# Altium footprint library IC_SMD_QUAD.PCBLIB: 135 footprints (part 4 of 9)
Each footprint in its own frame and in the unit in brackets; x right, y up, seen from the top. Pads: shape width x height; smd on the part's side, far side on the other; paste and mask are expansions set on the pad; w line width, h text height; cw(c..) or ccw(c..) is an arc to the next point about the centre after c.
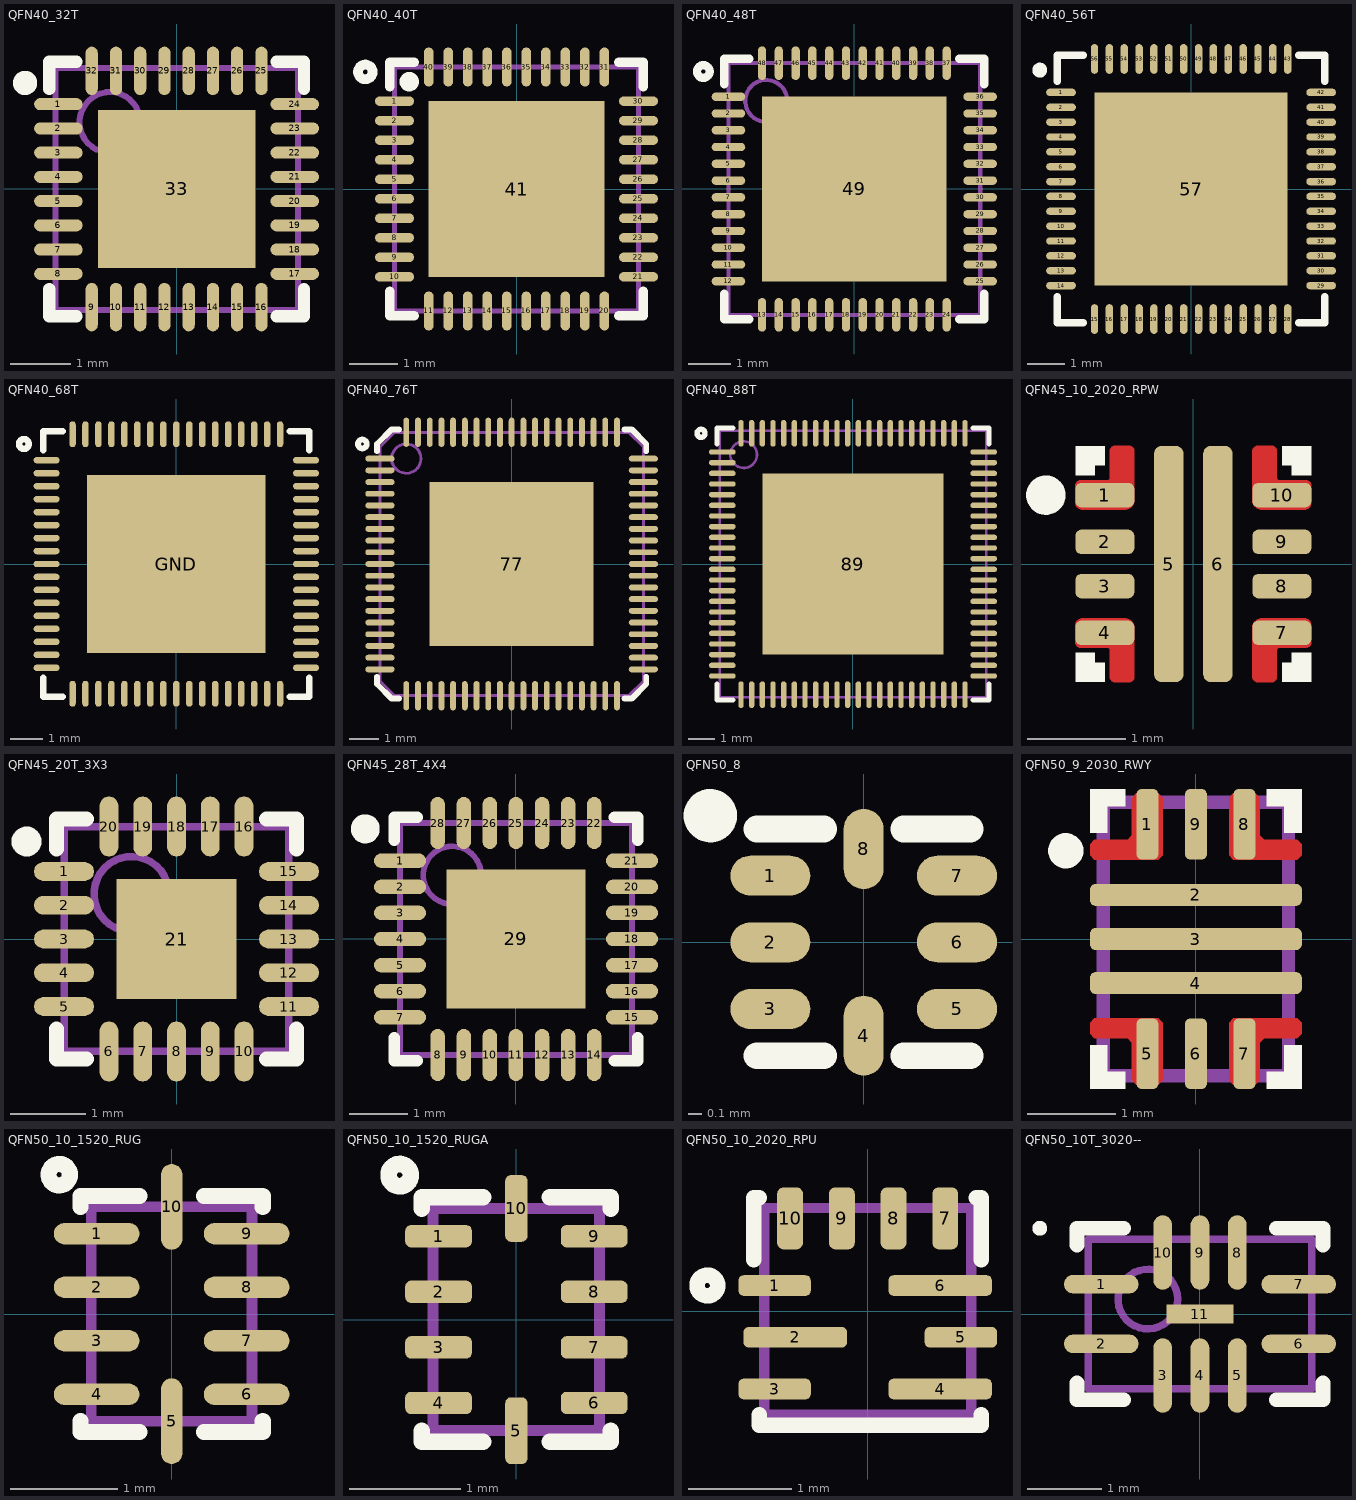
[diagram p3: the footprints below, top view; thin cyan lines are the x and y axes]

## QFN40_32T [mm] "QFN, 32M3, 32-Leads, Body 4x4mm, Pitch 0.40mm"
height 0.9
pads (33):
  oval 0.8x0.2 smd mask+0.05: 1(-1.95,1.4) 2(-1.95,1) 3(-1.95,0.6) 4(-1.95,0.2) 5(-1.95,-0.2) 6(-1.95,-0.6) 7(-1.95,-1) 8(-1.95,-1.4) 17(1.95,-1.4) 18(1.95,-1) 19(1.95,-0.6) 20(1.95,-0.2) 21(1.95,0.2) 22(1.95,0.6) 23(1.95,1) 24(1.95,1.4)
  oval 0.2x0.8 smd mask+0.05: 9(-1.4,-1.95) 10(-1,-1.95) 11(-0.6,-1.95) 12(-0.2,-1.95) 13(0.2,-1.95) 14(0.6,-1.95) 15(1,-1.95) 16(1.4,-1.95) 25(1.4,1.95) 26(1,1.95) 27(0.6,1.95) 28(0.2,1.95) 29(-0.2,1.95) 30(-0.6,1.95) 31(-1,1.95) 32(-1.4,1.95)
  rect 2.6x2.6 smd paste-5 mask+0.1: 33(0,0)
TopOverlay:
  circle w0.2: c-2.5,1.75 r0.1
  lines w0.2: -2.1,-1.65 -2.1,-2.1 -1.65,-2.1 ; -2.1,1.65 -2.1,2.1 -1.65,2.1 ; 1.65,-2.1 2.1,-2.1 2.1,-1.65 ; 1.65,2.1 2.1,2.1 2.1,1.65
TopPaste:
  rectangle: -1.2,0.2 -0.2,1.2
  region: 1.2,1.2 0.2,1.2 0.2,0.2 1.2,0.2
  region: 1.2,-0.2 0.2,-0.2 0.2,-1.2 1.2,-1.2
  rectangle: -1.2,-1.2 -0.2,-0.2
Mechanical13:
  circle w0.1: c-1.1,1.1 r0.5
  lines w0.1: -2,-2 2,-2 2,2 -2,2 -2,-2
3D body "QFN40_32T.step": height 0.9, standoff 0, extent -2.001,-2.001 2.001,2.001

## QFN40_40T [mm] "40 TQFN-EP (maxim), 5X5mm, 0.4mm"
height 0.75
pads (41):
  oval 0.8x0.2 smd mask+0.05: 1(-2.5,1.8) 2(-2.5,1.4) 3(-2.5,1) 4(-2.5,0.6) 5(-2.5,0.2) 6(-2.5,-0.2) 7(-2.5,-0.6) 8(-2.5,-1) 9(-2.5,-1.4) 10(-2.5,-1.8) 21(2.5,-1.8) 22(2.5,-1.4) 23(2.5,-1) 24(2.5,-0.6) 25(2.5,-0.2) 26(2.5,0.2) 27(2.5,0.6) 28(2.5,1) 29(2.5,1.4) 30(2.5,1.8)
  oval 0.2x0.8 smd mask+0.05: 11(-1.8,-2.5) 12(-1.4,-2.5) 13(-1,-2.5) 14(-0.6,-2.5) 15(-0.2,-2.5) 16(0.2,-2.5) 17(0.6,-2.5) 18(1,-2.5) 19(1.4,-2.5) 20(1.8,-2.5) 31(1.8,2.5) 32(1.4,2.5) 33(1,2.5) 34(0.6,2.5) 35(0.2,2.5) 36(-0.2,2.5) 37(-0.6,2.5) 38(-1,2.5) 39(-1.4,2.5) 40(-1.8,2.5)
  rect 3.6x3.6 smd paste-5: 41(0,0)
TopOverlay:
  circle w0.2: c-3.1,2.4 r0.15
  circle w0.2: c-2.2,2.2 r0.1
  lines w0.2: -2.6,-2.1 -2.6,-2.6 -2.1,-2.6 ; -2.6,2.1 -2.6,2.6 -2.1,2.6 ; 2.1,-2.6 2.6,-2.6 2.6,-2.1 ; 2.1,2.6 2.6,2.6 2.6,2.1
TopPaste:
  rectangle: -1.6,0.2 -0.2,1.6
  region: 1.6,1.6 0.2,1.6 0.2,0.2 1.6,0.2
  region: 1.6,-0.2 0.2,-0.2 0.2,-1.6 1.6,-1.6
  rectangle: -1.6,-1.6 -0.2,-0.2
Mechanical13:
  lines w0.1: -2.5,-2.5 2.5,-2.5 2.5,2.5 -2.5,2.5 -2.5,-2.5
3D body "User Library-QFN 40 5x5.step": height 0.73, standoff -0.02, extent -2.501,-2.501 2.501,2.501

## QFN40_48T [mm] "QFN, 48-Leads, Body 6.00x6.00mm, Pitch 0.40mm, Thermal Pad 4.40x4.40mm"
height 1
pads (49):
  oval 0.8x0.2 smd mask+0.05: 1(-3,2.2) 2(-3,1.8) 3(-3,1.4) 4(-3,1) 5(-3,0.6) 6(-3,0.2) 7(-3,-0.2) 8(-3,-0.6) 9(-3,-1) 10(-3,-1.4) 11(-3,-1.8) 12(-3,-2.2) 25(3,-2.2) 26(3,-1.8) 27(3,-1.4) 28(3,-1) 29(3,-0.6) 30(3,-0.2) 31(3,0.2) 32(3,0.6) 33(3,1) 34(3,1.4) 35(3,1.8) 36(3,2.2)
  oval 0.2x0.8 smd mask+0.05: 13(-2.2,-3) 14(-1.8,-3) 15(-1.4,-3) 16(-1,-3) 17(-0.6,-3) 18(-0.2,-3) 19(0.2,-3) 20(0.6,-3) 21(1,-3) 22(1.4,-3) 23(1.8,-3) 24(2.2,-3) 37(2.2,3) 38(1.8,3) 39(1.4,3) 40(1,3) 41(0.6,3) 42(0.2,3) 43(-0.2,3) 44(-0.6,3) 45(-1,3) 46(-1.4,3) 47(-1.8,3) 48(-2.2,3)
  rect 4.4x4.4 smd paste-5 mask+0.1: 49(0,0)
TopOverlay:
  circle w0.2: c-3.6,2.8 r0.15
  lines w0.2: -3.1,-2.5 -3.1,-3.1 -2.5,-3.1 ; -3.1,2.5 -3.1,3.1 -2.5,3.1 ; 2.5,-3.1 3.1,-3.1 3.1,-2.5 ; 2.5,3.1 3.1,3.1 3.1,2.5
TopPaste:
  rectangle: -2,0.2 -0.2,2
  region: 2,2 0.2,2 0.2,0.2 2,0.2
  region: 2,-0.2 0.2,-0.2 0.2,-2 2,-2
  rectangle: -2,-2 -0.2,-0.2
Mechanical13:
  circle w0.1: c-2.1,2.1 r0.5
  lines w0.1: -3,-3 -3,3 3,3 3,-3 -3,-3
3D body: height 1, standoff 0, extent -3,-3 3,3

## QFN40_56T [mm] "QFN-56 7*7,  pitch: 0.4mm, 7x7x0.8mm"
height 0.8
pads (57):
  oval 0.8x0.2 smd mask+0.05: 1(-3.5,2.6) 2(-3.5,2.2) 3(-3.5,1.8) 4(-3.5,1.4) 5(-3.5,1) 6(-3.5,0.6) 7(-3.5,0.2) 8(-3.5,-0.2) 9(-3.5,-0.6) 10(-3.5,-1) 11(-3.5,-1.4) 12(-3.5,-1.8) 13(-3.5,-2.2) 14(-3.5,-2.6) 29(3.5,-2.6) 30(3.5,-2.2) 31(3.5,-1.8) 32(3.5,-1.4) 33(3.5,-1) 34(3.5,-0.6) 35(3.5,-0.2) 36(3.5,0.2) 37(3.5,0.6) 38(3.5,1) 39(3.5,1.4) 40(3.5,1.8) 41(3.5,2.2) 42(3.5,2.6)
  oval 0.2x0.8 smd mask+0.05: 15(-2.6,-3.5) 16(-2.2,-3.5) 17(-1.8,-3.5) 18(-1.4,-3.5) 19(-1,-3.5) 20(-0.6,-3.5) 21(-0.2,-3.5) 22(0.2,-3.5) 23(0.6,-3.5) 24(1,-3.5) 25(1.4,-3.5) 26(1.8,-3.5) 27(2.2,-3.5) 28(2.6,-3.5) 43(2.6,3.5) 44(2.2,3.5) 45(1.8,3.5) 46(1.4,3.5) 47(1,3.5) 48(0.6,3.5) 49(0.2,3.5) 50(-0.2,3.5) 51(-0.6,3.5) 52(-1,3.5) 53(-1.4,3.5) 54(-1.8,3.5) 55(-2.2,3.5) 56(-2.6,3.5)
  rect 5.2x5.2 smd paste-3 mask+0.075: 57(0,0)
TopOverlay:
  circle w0.2: c-4.075,3.2 r0.1
  lines w0.2: -3.6,-2.9 -3.6,-3.6 -2.9,-3.6 ; -3.6,2.9 -3.6,3.6 -2.9,3.6 ; 2.9,-3.6 3.6,-3.6 3.6,-2.9 ; 2.9,3.6 3.6,3.6 3.6,2.9
TopPaste:
  rectangle: -1.2,-1.2 -0.2,-0.2
  rectangle: -2.4,-2.4 -1.4,-1.4
  region: -0.2,-1.4 -1.2,-1.4 -1.2,-2.4 -0.2,-2.4
  rectangle: -2.4,-1.2 -1.4,-0.2
  region: 2.4,-0.2 1.4,-0.2 1.4,-1.2 2.4,-1.2
  rectangle: 0.2,-2.4 1.2,-1.4
  region: 2.4,-1.4 1.4,-1.4 1.4,-2.4 2.4,-2.4
  region: 1.2,-0.2 0.2,-0.2 0.2,-1.2 1.2,-1.2
  region: 1.2,1.2 0.2,1.2 0.2,0.2 1.2,0.2
  region: 2.4,2.4 1.4,2.4 1.4,1.4 2.4,1.4
  rectangle: 0.2,1.4 1.2,2.4
  region: 2.4,1.2 1.4,1.2 1.4,0.2 2.4,0.2
  rectangle: -2.4,0.2 -1.4,1.2
  region: -0.2,2.4 -1.2,2.4 -1.2,1.4 -0.2,1.4
  rectangle: -2.4,1.4 -1.4,2.4
  rectangle: -1.2,0.2 -0.2,1.2
3D body "AXP805.stp": height 0.8, standoff 0, extent -3.55,-3.55 3.55,3.55

## QFN40_68T [mm] "QFN-68, pitch 0.4mm, 8x8x0.75mm"
height 0.75
pads (69):
  oval 0.8x0.2 smd paste+0 mask+0.05: 1(-4,3.2) 2(-4,2.8) 3(-4,2.4) 4(-4,2) 5(-4,1.6) 6(-4,1.2) 7(-4,0.8) 8(-4,0.4) 9(-4,0) 10(-4,-0.4) 11(-4,-0.8) 12(-4,-1.2) 13(-4,-1.6) 14(-4,-2) 15(-4,-2.4) 16(-4,-2.8) 17(-4,-3.2) 35(4,-3.2) 36(4,-2.8) 37(4,-2.4) 38(4,-2) 39(4,-1.6) 40(4,-1.2) 41(4,-0.8) 42(4,-0.4) 43(4,0) 44(4,0.4) 45(4,0.8) 46(4,1.2) 47(4,1.6) 48(4,2) 49(4,2.4) 50(4,2.8) 51(4,3.2)
  oval 0.2x0.8 smd paste+0 mask+0.05: 18(-3.2,-4) 19(-2.8,-4) 20(-2.4,-4) 21(-2,-4) 22(-1.6,-4) 23(-1.2,-4) 24(-0.8,-4) 25(-0.4,-4) 26(0,-4) 27(0.4,-4) 28(0.8,-4) 29(1.2,-4) 30(1.6,-4) 31(2,-4) 32(2.4,-4) 33(2.8,-4) 34(3.2,-4) 52(3.2,4) 53(2.8,4) 54(2.4,4) 55(2,4) 56(1.6,4) 57(1.2,4) 58(0.8,4) 59(0.4,4) 60(0,4) 61(-0.4,4) 62(-0.8,4) 63(-1.2,4) 64(-1.6,4) 65(-2,4) 66(-2.4,4) 67(-2.8,4) 68(-3.2,4)
  rect 5.5x5.5 smd paste-3: GND(0,0)
TopOverlay:
  circle w0.2: c-4.7,3.7 r0.15
  lines w0.2: -4.1,-3.5 -4.1,-4.1 -3.5,-4.1 ; -4.1,3.5 -4.1,4.1 -3.5,4.1 ; 3.5,-4.1 4.1,-4.1 4.1,-3.5 ; 3.5,4.1 4.1,4.1 4.1,3.5
TopPaste:
  region: 2.7,-0.8 2.7,-1.3 1.7,-1.3 1.7,-0.8
  region: 1.3,-2.7 0.8,-2.7 0.8,-1.7 1.3,-1.7
  region: -0.8,-2.7 -1.3,-2.7 -1.3,-1.7 -0.8,-1.7
  region: -2.7,-1.3 -2.7,-0.8 -1.7,-0.8 -1.7,-1.3
  region: -2.7,0.8 -2.7,1.3 -1.7,1.3 -1.7,0.8
  region: -1.3,2.7 -0.8,2.7 -0.8,1.7 -1.3,1.7
  region: 1.7,0.8 1.7,1.3 2.7,1.3 2.7,0.8
  region: 0.8,2.7 1.3,2.7 1.3,1.7 0.8,1.7
  region: 1.2,-0.9 1.2,0.9 2.7,0.9 2.7,-0.9
  region: -0.9,1.2 -0.9,2.7 0.9,2.7 0.9,1.2
  region: -0.9,-2.7 -0.9,-1.2 0.9,-1.2 0.9,-2.7
  region: -2.7,-0.9 -2.7,0.9 -1.2,0.9 -1.2,-0.9
3D body: height 0.75, standoff 0, extent -4,-4 4,4

## QFN40_76T [mm] "QFN, 76-Leads, Body 9.00x9.00mm, Pitch 0.40mm, Thermal Pad 5.50x5.50mm"
height 1
pads (77):
  oval 1x0.2 smd mask+0.05: 1(-4.5,3.6) 2(-4.5,3.2) 3(-4.5,2.8) 4(-4.5,2.4) 5(-4.5,2) 6(-4.5,1.6) 7(-4.5,1.2) 8(-4.5,0.8) 9(-4.5,0.4) 10(-4.5,0) 11(-4.5,-0.4) 12(-4.5,-0.8) 13(-4.5,-1.2) 14(-4.5,-1.6) 15(-4.5,-2) 16(-4.5,-2.4) 17(-4.5,-2.8) 18(-4.5,-3.2) 19(-4.5,-3.6) 39(4.5,-3.6) 40(4.5,-3.2) 41(4.5,-2.8) 42(4.5,-2.4) 43(4.5,-2) 44(4.5,-1.6) 45(4.5,-1.2) 46(4.5,-0.8) 47(4.5,-0.4) 48(4.5,0) 49(4.5,0.4) 50(4.5,0.8) 51(4.5,1.2) 52(4.5,1.6) 53(4.5,2) 54(4.5,2.4) 55(4.5,2.8) 56(4.5,3.2) 57(4.5,3.6)
  oval 0.2x1 smd mask+0.05: 20(-3.6,-4.5) 21(-3.2,-4.5) 22(-2.8,-4.5) 23(-2.4,-4.5) 24(-2,-4.5) 25(-1.6,-4.5) 26(-1.2,-4.5) 27(-0.8,-4.5) 28(-0.4,-4.5) 29(0,-4.5) 30(0.4,-4.5) 31(0.8,-4.5) 32(1.2,-4.5) 33(1.6,-4.5) 34(2,-4.5) 35(2.4,-4.5) 36(2.8,-4.5) 37(3.2,-4.5) 38(3.6,-4.5) 58(3.6,4.5) 59(3.2,4.5) 60(2.8,4.5) 61(2.4,4.5) 62(2,4.5) 63(1.6,4.5) 64(1.2,4.5) 65(0.8,4.5) 66(0.4,4.5) 67(0,4.5) 68(-0.4,4.5) 69(-0.8,4.5) 70(-1.2,4.5) 71(-1.6,4.5) 72(-2,4.5) 73(-2.4,4.5) 74(-2.8,4.5) 75(-3.2,4.5) 76(-3.6,4.5)
  rect 5.6x5.6 smd paste-5: 77(0,0)
TopOverlay:
  circle w0.2: c-5.1,4.1 r0.15
  lines w0.2: -4.6,-3.85 -4.6,-4.1 -4.1,-4.6 -3.85,-4.6 ; -4.6,3.85 -4.6,4.1 -4.1,4.6 -3.85,4.6 ; 3.85,-4.6 4.1,-4.6 4.6,-4.1 4.6,-3.85 ; 3.85,4.6 4.1,4.6 4.6,4.1 4.6,3.85
TopPaste:
  region: 1.2,1.2 0.2,1.2 0.2,0.2 1.2,0.2
  region: 2.6,2.6 1.6,2.6 1.6,1.6 2.6,1.6
  rectangle: 0.2,1.6 1.2,2.6
  region: 2.6,1.2 1.6,1.2 1.6,0.2 2.6,0.2
  rectangle: -2.6,0.2 -1.6,1.2
  region: -0.2,2.6 -1.2,2.6 -1.2,1.6 -0.2,1.6
  rectangle: -2.6,1.6 -1.6,2.6
  rectangle: -1.2,0.2 -0.2,1.2
  rectangle: -1.2,-1.2 -0.2,-0.2
  rectangle: -2.6,-2.6 -1.6,-1.6
  region: -0.2,-1.6 -1.2,-1.6 -1.2,-2.6 -0.2,-2.6
  rectangle: -2.6,-1.2 -1.6,-0.2
  region: 2.6,-0.2 1.6,-0.2 1.6,-1.2 2.6,-1.2
  rectangle: 0.2,-2.6 1.2,-1.6
  region: 2.6,-1.6 1.6,-1.6 1.6,-2.6 2.6,-2.6
  region: 1.2,-0.2 0.2,-0.2 0.2,-1.2 1.2,-1.2
Mechanical13:
  circle w0.1: c-3.6,3.6 r0.5
  lines w0.1: -4.5,-4 -4,-4.5 4,-4.5 4.5,-4 4.5,4 4,4.5 -4,4.5 -4.5,4 -4.5,-4
3D body: height 1, standoff 0, extent -4.5,-4.5 4.5,4.5

## QFN40_88T [mm] "QFN, 88-Leads, 10x10mm, Pitch 0.40mm"
height 0.9
pads (89):
  oval 1x0.2 smd mask+0.05: 1(-4.9,4.2) 2(-4.9,3.8) 3(-4.9,3.4) 4(-4.9,3) 5(-4.9,2.6) 6(-4.9,2.2) 7(-4.9,1.8) 8(-4.9,1.4) 9(-4.9,1) 10(-4.9,0.6) 11(-4.9,0.2) 12(-4.9,-0.2) 13(-4.9,-0.6) 14(-4.9,-1) 15(-4.9,-1.4) 16(-4.9,-1.8) 17(-4.9,-2.2) 18(-4.9,-2.6) 19(-4.9,-3) 20(-4.9,-3.4) 21(-4.9,-3.8) 22(-4.9,-4.2) 45(4.9,-4.2) 46(4.9,-3.8) 47(4.9,-3.4) 48(4.9,-3) 49(4.9,-2.6) 50(4.9,-2.2) 51(4.9,-1.8) 52(4.9,-1.4) 53(4.9,-1) 54(4.9,-0.6) 55(4.9,-0.2) 56(4.9,0.2) 57(4.9,0.6) 58(4.9,1) 59(4.9,1.4) 60(4.9,1.8) 61(4.9,2.2) 62(4.9,2.6) 63(4.9,3) 64(4.9,3.4) 65(4.9,3.8) 66(4.9,4.2)
  oval 0.2x1 smd mask+0.05: 23(-4.2,-4.9) 24(-3.8,-4.9) 25(-3.4,-4.9) 26(-3,-4.9) 27(-2.6,-4.9) 28(-2.2,-4.9) 29(-1.8,-4.9) 30(-1.4,-4.9) 31(-1,-4.9) 32(-0.6,-4.9) 33(-0.2,-4.9) 34(0.2,-4.9) 35(0.6,-4.9) 36(1,-4.9) 37(1.4,-4.9) 38(1.8,-4.9) 39(2.2,-4.9) 40(2.6,-4.9) 41(3,-4.9) 42(3.4,-4.9) 43(3.8,-4.9) 44(4.2,-4.9) 67(4.2,4.9) 68(3.8,4.9) 69(3.4,4.9) 70(3,4.9) 71(2.6,4.9) 72(2.2,4.9) 73(1.8,4.9) 74(1.4,4.9) 75(1,4.9) 76(0.6,4.9) 77(0.2,4.9) 78(-0.2,4.9) 79(-0.6,4.9) 80(-1,4.9) 81(-1.4,4.9) 82(-1.8,4.9) 83(-2.2,4.9) 84(-2.6,4.9) 85(-3,4.9) 86(-3.4,4.9) 87(-3.8,4.9) 88(-4.2,4.9)
  rect 6.8x6.8 smd: 89(0,0)
TopOverlay:
  circle w0.2: c-5.7,4.9 r0.15
  lines w0.2: -5.1,-4.5 -5.1,-5.1 -4.5,-5.1 ; -5.1,4.5 -5.1,5.1 -4.5,5.1 ; 4.5,-5.1 5.1,-5.1 5.1,-4.5 ; 4.5,5.1 5.1,5.1 5.1,4.5
Mechanical13:
  circle w0.1: c-4.1,4.1 r0.5
  lines w0.1: -5,-5 5,-5 5,5 -5,5 -5,-5
3D body "QFN40_88T.step": height 0.9, standoff 0, extent -5.001,-5.001 5.001,5.001

## QFN45_10_2020_RPW [mm] "QFN-10 RPW, pitch: 0.5mm, 2x2x1mm"
height 1
pads (10):
  rrect50% 0.6x0.25 smd mask+0.05: 1(-0.9,0.7) 2(-0.9,0.225) 3(-0.9,-0.225) 4(-0.9,-0.7) 7(0.9,-0.7) 8(0.9,-0.225) 9(0.9,0.225) 10(0.9,0.7)
  rrect50% 0.3x2.4 smd paste-2 mask+0.05: 5(-0.25,0) 6(0.25,0)
TopLayer:
  region: -1.2,-0.625 -1.2,-0.8 -1.2,-0.81 -1.192,-0.828 -1.178,-0.842 -1.16,-0.85 -1.15,-0.85 -0.875,-0.85 -0.87,-0.85 -0.861,-0.854 -0.854,-0.861 -0.85,-0.87 -0.85,-0.875 -0.85,-1.15 -0.85,-1.16 -0.842,-1.178 -0.828,-1.192 -0.81,-1.2 -0.8,-1.2 -0.65,-1.2 -0.64,-1.2 -0.622,-1.192 -0.608,-1.178 -0.6,-1.16 -0.6,-1.15 -0.6,-0.65 -0.6,-0.63 -0.615,-0.593 -0.643,-0.565 -0.68,-0.55 -0.7,-0.55 -1.125,-0.55 -1.14,-0.55 -1.167,-0.561 -1.189,-0.582 -1.2,-0.61
  region: 1.2,-0.625 1.2,-0.8 1.2,-0.81 1.192,-0.828 1.178,-0.842 1.16,-0.85 1.15,-0.85 0.875,-0.85 0.87,-0.85 0.861,-0.854 0.854,-0.861 0.85,-0.87 0.85,-0.875 0.85,-1.15 0.85,-1.16 0.842,-1.178 0.828,-1.192 0.81,-1.2 0.8,-1.2 0.65,-1.2 0.64,-1.2 0.622,-1.192 0.608,-1.178 0.6,-1.16 0.6,-1.15 0.6,-0.65 0.6,-0.63 0.615,-0.593 0.643,-0.565 0.68,-0.55 0.7,-0.55 1.125,-0.55 1.14,-0.55 1.167,-0.561 1.189,-0.582 1.2,-0.61
  region: 1.2,0.625 1.2,0.8 1.2,0.81 1.192,0.828 1.178,0.842 1.16,0.85 1.15,0.85 0.875,0.85 0.87,0.85 0.861,0.854 0.854,0.861 0.85,0.87 0.85,0.875 0.85,1.15 0.85,1.16 0.842,1.178 0.828,1.192 0.81,1.2 0.8,1.2 0.65,1.2 0.64,1.2 0.622,1.192 0.608,1.178 0.6,1.16 0.6,1.15 0.6,0.65 0.6,0.63 0.615,0.593 0.643,0.565 0.68,0.55 0.7,0.55 1.125,0.55 1.14,0.55 1.167,0.561 1.189,0.582 1.2,0.61
  region: -1.2,0.625 -1.2,0.8 -1.2,0.81 -1.192,0.828 -1.178,0.842 -1.16,0.85 -1.15,0.85 -0.875,0.85 -0.87,0.85 -0.861,0.854 -0.854,0.861 -0.85,0.87 -0.85,0.875 -0.85,1.15 -0.85,1.16 -0.842,1.178 -0.828,1.192 -0.81,1.2 -0.8,1.2 -0.65,1.2 -0.64,1.2 -0.622,1.192 -0.608,1.178 -0.6,1.16 -0.6,1.15 -0.6,0.65 -0.6,0.63 -0.615,0.593 -0.643,0.565 -0.68,0.55 -0.7,0.55 -1.125,0.55 -1.14,0.55 -1.167,0.561 -1.189,0.582 -1.2,0.61
TopOverlay:
  circle w0.2: c-1.5,0.7 r0.1
  region: -0.9,-1 -1.2,-1 -1.2,-1.2 -0.9,-1.2
  region: -1,-1.2 -1,-0.9 -1.2,-0.9 -1.2,-1.2
  rectangle: 0.9,-1.2 1.2,-1
  region: 1.2,-1.2 1.2,-0.9 1,-0.9 1,-1.2
  rectangle: 0.9,1 1.2,1.2
  region: 1,1.2 1,0.9 1.2,0.9 1.2,1.2
  region: -0.9,1.2 -1.2,1.2 -1.2,1 -0.9,1
  region: -1.2,1.2 -1.2,0.9 -1,0.9 -1,1.2
TopPaste:
  region: -0.15,-0.1 -0.35,-0.1 -0.36,-0.1 -0.378,-0.108 -0.392,-0.122 -0.4,-0.14 -0.4,-0.15 -0.4,-1.05 -0.4,-1.06 -0.392,-1.078 -0.378,-1.092 -0.36,-1.1 -0.35,-1.1 -0.15,-1.1 -0.14,-1.1 -0.122,-1.092 -0.108,-1.078 -0.1,-1.06 -0.1,-1.05 -0.1,-0.15 -0.1,-0.14 -0.108,-0.122 -0.122,-0.108 -0.14,-0.1
  region: 0.15,-0.1 0.35,-0.1 0.36,-0.1 0.378,-0.108 0.392,-0.122 0.4,-0.14 0.4,-0.15 0.4,-1.05 0.4,-1.06 0.392,-1.078 0.378,-1.092 0.36,-1.1 0.35,-1.1 0.15,-1.1 0.14,-1.1 0.122,-1.092 0.108,-1.078 0.1,-1.06 0.1,-1.05 0.1,-0.15 0.1,-0.14 0.108,-0.122 0.122,-0.108 0.14,-0.1
  region: -0.15,0.1 -0.35,0.1 -0.36,0.1 -0.378,0.108 -0.392,0.122 -0.4,0.14 -0.4,0.15 -0.4,1.05 -0.4,1.06 -0.392,1.078 -0.378,1.092 -0.36,1.1 -0.35,1.1 -0.15,1.1 -0.14,1.1 -0.122,1.092 -0.108,1.078 -0.1,1.06 -0.1,1.05 -0.1,0.15 -0.1,0.14 -0.108,0.122 -0.122,0.108 -0.14,0.1
  region: 0.15,0.1 0.35,0.1 0.36,0.1 0.378,0.108 0.392,0.122 0.4,0.14 0.4,0.15 0.4,1.05 0.4,1.06 0.392,1.078 0.378,1.092 0.36,1.1 0.35,1.1 0.15,1.1 0.14,1.1 0.122,1.092 0.108,1.078 0.1,1.06 0.1,1.05 0.1,0.15 0.1,0.14 0.108,0.122 0.122,0.108 0.14,0.1
3D body "RPW0010A.stp": height 1, standoff 0, extent -1,-1 1,1

## QFN45_20T_3X3 [mm] "20M2, QFN-20, 3X3mm, pitch 0.45mm"
height 0.8
pads (21):
  oval 0.8x0.25 smd mask+0.05: 1(-1.5,0.9) 2(-1.5,0.45) 3(-1.5,0) 4(-1.5,-0.45) 5(-1.5,-0.9) 11(1.5,-0.9) 12(1.5,-0.45) 13(1.5,0) 14(1.5,0.45) 15(1.5,0.9)
  oval 0.25x0.8 smd mask+0.05: 6(-0.9,-1.5) 7(-0.45,-1.5) 8(0,-1.5) 9(0.45,-1.5) 10(0.9,-1.5) 16(0.9,1.5) 17(0.45,1.5) 18(0,1.5) 19(-0.45,1.5) 20(-0.9,1.5)
  rect 1.6x1.6 smd paste-5 mask+0.1: 21(0,0)
TopOverlay:
  circle w0.2: c-2,1.3 r0.1
  lines w0.2: -1.6,-1.2 -1.6,-1.6 -1.2,-1.6 ; -1.6,1.2 -1.6,1.6 -1.2,1.6 ; 1.2,-1.6 1.6,-1.6 1.6,-1.2 ; 1.2,1.6 1.6,1.6 1.6,1.2
TopPaste:
  rectangle: -0.7,-0.7 -0.1,-0.1
  region: 0.7,-0.1 0.1,-0.1 0.1,-0.7 0.7,-0.7
  region: 0.7,0.7 0.1,0.7 0.1,0.1 0.7,0.1
  rectangle: -0.7,0.1 -0.1,0.7
Mechanical13:
  circle w0.1: c-0.6,0.6 r0.5
  lines w0.1: -1.5,-1.5 -1.5,1.5 1.5,1.5 1.5,-1.5 -1.5,-1.5
3D body "QFN45_20T_3X3.step": height 0.8, standoff 0, extent -1.501,-1.501 1.501,1.501

## QFN45_28T_4X4 [mm] "28M1, QFN-28, pitch:0.45mm 4x4x1mm"
height 1
pads (29):
  oval 0.9x0.25 smd mask+0.05: 1(-2,1.35) 2(-2,0.9) 3(-2,0.45) 4(-2,0) 5(-2,-0.45) 6(-2,-0.9) 7(-2,-1.35) 15(2,-1.35) 16(2,-0.9) 17(2,-0.45) 18(2,0) 19(2,0.45) 20(2,0.9) 21(2,1.35)
  oval 0.25x0.9 smd mask+0.05: 8(-1.35,-2) 9(-0.9,-2) 10(-0.45,-2) 11(0,-2) 12(0.45,-2) 13(0.9,-2) 14(1.35,-2) 22(1.35,2) 23(0.9,2) 24(0.45,2) 25(0,2) 26(-0.45,2) 27(-0.9,2) 28(-1.35,2)
  rect 2.4x2.4 smd paste-5: 29(0,0)
TopOverlay:
  circle w0.25: c-2.6,1.9 r0.125
  lines w0.2: -2.1,-1.7 -2.1,-2.1 -1.7,-2.1 ; -2.1,1.7 -2.1,2.1 -1.7,2.1 ; 1.7,-2.1 2.1,-2.1 2.1,-1.7 ; 1.7,2.1 2.1,2.1 2.1,1.7
TopPaste:
  rectangle: -1.1,0.2 -0.2,1.1
  region: 1.1,1.1 0.2,1.1 0.2,0.2 1.1,0.2
  region: 1.1,-0.2 0.2,-0.2 0.2,-1.1 1.1,-1.1
  rectangle: -1.1,-1.1 -0.2,-0.2
Mechanical13:
  circle w0.1: c-1.1,1.1 r0.5
  lines w0.1: -2,-2 2,-2 2,2 -2,2 -2,-2
3D body "QFN45_28T_4X4.step": height 1, standoff 0, extent -2.001,-2.001 2.001,2.001

## QFN50_8 [mm] "RSE UQFN-8, 1.5X1.5X.6mm"
height 0.6
pads (8):
  oval 0.6x0.3 smd mask+0.05: 1(-0.7,0.5) 2(-0.7,0) 3(-0.7,-0.5) 5(0.7,-0.5) 6(0.7,0) 7(0.7,0.5)
  oval 0.3x0.6 smd mask+0.05: 4(0,-0.7) 8(0,0.7)
TopOverlay:
  circle w0.2: c-1.15,0.95 r0.1
  lines w0.2: -0.8,-0.85 -0.3,-0.85 ; -0.8,0.85 -0.3,0.85 ; 0.3,-0.85 0.8,-0.85 ; 0.3,0.85 0.8,0.85
3D body: height 0.6, standoff 0, extent -0.75,-0.75 0.75,0.75

## QFN50_9_2030_RWY [mm] "VQFN-9 RWY, pitch: 0.5mm, 2x3x1mm"
height 1
pads (9):
  rrect50% 0.25x0.8 smd paste-0.151 mask+0.05: 1(-0.55,1.3) 5(-0.55,-1.3) 7(0.55,-1.3) 8(0.55,1.3)
  rrect50% 2.4x0.25 smd paste-1.137 mask+0.05: 2(0,0.5) 3(0,0) 4(0,-0.5)
  rrect50% 0.25x0.8 smd paste+0 mask+0.05: 6(0,-1.3) 9(0,1.3)
TopLayer:
  region: -0.425,-0.9 -1.15,-0.9 -1.2,-0.95 -1.2,-1.075 -1.15,-1.125 -0.775,-1.125 -0.725,-1.175 -0.725,-1.6 -0.675,-1.65 -0.425,-1.65 -0.375,-1.6 -0.375,-0.95
  region: 0.425,-0.9 1.15,-0.9 1.2,-0.95 1.2,-1.075 1.15,-1.125 0.775,-1.125 0.725,-1.175 0.725,-1.6 0.675,-1.65 0.425,-1.65 0.375,-1.6 0.375,-0.95
  region: 0.425,0.9 1.15,0.9 1.2,0.95 1.2,1.075 1.15,1.125 0.775,1.125 0.725,1.175 0.725,1.6 0.675,1.65 0.425,1.65 0.375,1.6 0.375,0.95
  region: -0.425,0.9 -1.15,0.9 -1.2,0.95 -1.2,1.075 -1.15,1.125 -0.775,1.125 -0.725,1.175 -0.725,1.6 -0.675,1.65 -0.425,1.65 -0.375,1.6 -0.375,0.95
TopOverlay:
  circle w0.2: c-1.475,1 r0.1
  region: -0.8,1.7 -1.2,1.7 -1.2,1.5 -0.8,1.5
  rectangle: 0.8,-1.7 1.2,-1.5
  region: 1,-1.2 1,-1.7 1.2,-1.7 1.2,-1.2
  region: -0.8,-1.5 -1.2,-1.5 -1.2,-1.7 -0.8,-1.7
  region: -1.2,-1.2 -1.2,-1.7 -1,-1.7 -1,-1.2
  rectangle: 0.8,1.5 1.2,1.7
  region: 1.2,1.2 1.2,1.7 1,1.7 1,1.2
  region: -1,1.2 -1,1.7 -1.2,1.7 -1.2,1.2
TopPaste:
  region: -0.5,-0.9 -1.125,-0.9 -1.125,-1.125 -0.695,-1.125 -0.675,-1.145 -0.675,-1.65 -0.425,-1.65 -0.425,-0.975
  region: 0.5,-0.9 1.125,-0.9 1.125,-1.125 0.695,-1.125 0.675,-1.145 0.675,-1.65 0.425,-1.65 0.425,-0.975
  region: 0.5,0.9 1.125,0.9 1.125,1.125 0.695,1.125 0.675,1.145 0.675,1.65 0.425,1.65 0.425,0.975
  region: -0.5,0.9 -1.125,0.9 -1.125,1.125 -0.695,1.125 -0.675,1.145 -0.675,1.65 -0.425,1.65 -0.425,0.975
  region: 0.1,-0.425 0.15,-0.375 1.1,-0.375 1.15,-0.425 1.15,-0.575 1.1,-0.625 0.15,-0.625 0.1,-0.575
  region: 0.1,-0.075 0.1,0.075 0.15,0.125 1.1,0.125 1.15,0.075 1.15,-0.075 1.1,-0.125 0.15,-0.125
  region: 0.15,0.625 1.1,0.625 1.15,0.575 1.15,0.425 1.1,0.375 0.15,0.375 0.1,0.425 0.1,0.575
  region: -1.15,-0.575 -1.15,-0.425 -1.1,-0.375 -0.15,-0.375 -0.1,-0.425 -0.1,-0.575 -0.15,-0.625 -1.1,-0.625
  region: -0.15,-0.125 -1.1,-0.125 -1.15,-0.075 -1.15,0.075 -1.1,0.125 -0.15,0.125 -0.1,0.075 -0.1,-0.075
  region: -0.1,0.425 -0.15,0.375 -1.1,0.375 -1.15,0.425 -1.15,0.575 -1.1,0.625 -0.15,0.625 -0.1,0.575
TopSolder:
  region: -0.45,-0.85 -1.175,-0.85 -1.25,-0.925 -1.25,-1.1 -1.175,-1.175 -0.75,-1.175 -0.725,-1.2 -0.725,-1.6 -0.675,-1.65 -0.425,-1.65 -0.375,-1.6 -0.375,-0.925
  region: 0.45,-0.85 1.175,-0.85 1.25,-0.925 1.25,-1.1 1.175,-1.175 0.75,-1.175 0.725,-1.2 0.725,-1.6 0.675,-1.65 0.425,-1.65 0.375,-1.6 0.375,-0.925
  region: 0.45,0.85 1.175,0.85 1.25,0.925 1.25,1.1 1.175,1.175 0.75,1.175 0.725,1.2 0.725,1.6 0.675,1.65 0.425,1.65 0.375,1.6 0.375,0.925
  region: -0.45,0.85 -1.175,0.85 -1.25,0.925 -1.25,1.1 -1.175,1.175 -0.75,1.175 -0.725,1.2 -0.725,1.6 -0.675,1.65 -0.425,1.65 -0.375,1.6 -0.375,0.925
Mechanical13:
  lines w0.15: -1.05,-1.55 -1.05,1.55 1.05,1.55 1.05,-1.55 -1.05,-1.55
3D body "RWY-VQFN9.STEP": height 1, standoff 0, extent -1,-1.5 1,1.5

## QFN50_10_1520_RUG [mm] "X2QFN-10, RUG, 0.5mm pitch, 1.5x2x0.4mm"
height 0.4
pads (10):
  oval 0.8x0.2 smd mask+0.05: 1(-0.7,0.75) 2(-0.7,0.25) 3(-0.7,-0.25) 4(-0.7,-0.75) 6(0.7,-0.75) 7(0.7,-0.25) 8(0.7,0.25) 9(0.7,0.75)
  oval 0.2x0.8 smd mask+0.05: 5(0,-1) 10(0,1)
TopOverlay:
  circle w0.15: c-1.05,1.3 r0.1
  lines w0.15: -0.85,-1 -0.85,-1.1 -0.3,-1.1 ; -0.85,1 -0.85,1.1 -0.3,1.1 ; 0.3,-1.1 0.85,-1.1 0.85,-1 ; 0.3,1.1 0.85,1.1 0.85,1
Mechanical13:
  lines w0.1: -0.75,-1 0.75,-1 0.75,1 -0.75,1 -0.75,-1
3D body "QFN150_10_2015.step": height 0.4, standoff 0, extent -0.751,-1.001 0.751,1.001

## QFN50_10_1520_RUGA [mm] "X2QFN-10, RUG, 0.5mm pitch, 1.5x2x0.4mm"
height 0.4
pads (10):
  rrect50% 0.6x0.2 smd mask+0.05: 1(-0.7,0.75) 2(-0.7,0.25) 3(-0.7,-0.25) 4(-0.7,-0.75) 6(0.7,-0.75) 7(0.7,-0.25) 8(0.7,0.25) 9(0.7,0.75)
  rrect50% 0.2x0.6 smd mask+0.05: 5(0,-1) 10(0,1)
TopOverlay:
  circle w0.15: c-1.05,1.3 r0.1
  lines w0.15: -0.85,-1 -0.85,-1.1 -0.3,-1.1 ; -0.85,1 -0.85,1.1 -0.3,1.1 ; 0.3,-1.1 0.85,-1.1 0.85,-1 ; 0.3,1.1 0.85,1.1 0.85,1
Mechanical13:
  lines w0.1: -0.75,-1 0.75,-1 0.75,1 -0.75,1 -0.75,-1
3D body "QFN150_10_2015.step": height 0.4, standoff 0, extent -0.751,-1.001 0.751,1.001

## QFN50_10_2020_RPU [mm] "VQFNHR-10, RPU, 0.5mm pitch, 2x2x1mm"
height 0.4
pads (10):
  rrect50% 0.7x0.2 smd paste+0 mask+0.05: 1(-0.9,0.25) 3(-0.9,-0.75) 5(0.9,-0.25)
  rrect50% 1x0.2 smd paste+0 mask+0.05: 2(-0.7,-0.25) 4(0.7,-0.75) 6(0.7,0.25)
  rrect50% 0.25x0.6 smd paste+0 mask+0.05: 7(0.75,0.9) 8(0.25,0.9) 9(-0.25,0.9) 10(-0.75,0.9)
TopOverlay:
  circle w0.15: c-1.55,0.25 r0.1
  lines w0.15: -1.1,0.5 -1.1,1.1 -1.05,1.1 ; -1.05,-1 -1.05,-1.1 1.1,-1.1 1.1,-1 ; 1.05,1.1 1.1,1.1 1.1,0.5
Mechanical13:
  lines w0.1: -1,-1 1,-1 1,1 -1,1 -1,-1
3D body "RPU0010A.stp": height 1, standoff 0, extent -1,-1 1,1

## QFN50_10T_3020-- [mm]
height 0.75
pads (11):
  oval 1x0.25 smd: 1(-1.325,0.4) 2(-1.325,-0.4) 6(1.325,-0.4) 7(1.325,0.4)
  oval 0.25x1 smd: 3(-0.5,-0.825) 4(0,-0.825) 5(0.5,-0.825) 8(0.5,0.825) 9(0,0.825) 10(-0.5,0.825)
  rect 0.9x0.25 smd: 11(0,0)
TopOverlay:
  circle w0.1: c-2.15,1.15 r0.05
  lines w0.2: -1.65,-0.925 -1.65,-1.15 -1.025,-1.15 ; -1.65,0.925 -1.65,1.15 -1.025,1.15 ; 1.025,-1.15 1.65,-1.15 1.65,-0.925 ; 1.025,1.15 1.65,1.15 1.65,0.925
Mechanical13:
  circle w0.1: c-0.7,0.2 r0.4
  lines w0.1: -1.5,-1 1.5,-1 1.5,1 -1.5,1 -1.5,-1
3D body "QFN50_10T_3020--.step": height 0.75, standoff 0, extent -1.501,-1.001 1.501,1.001